# Altium footprint library conn_sw.PCBLIB: 173 footprints (part 6 of 11)
Each footprint in its own frame and in the unit in brackets; x right, y up, seen from the top. Pads: shape width x height; smd on the part's side, far side on the other; paste and mask are expansions set on the pad; w line width, h text height; cw(c..) or ccw(c..) is an arc to the next point about the centre after c.
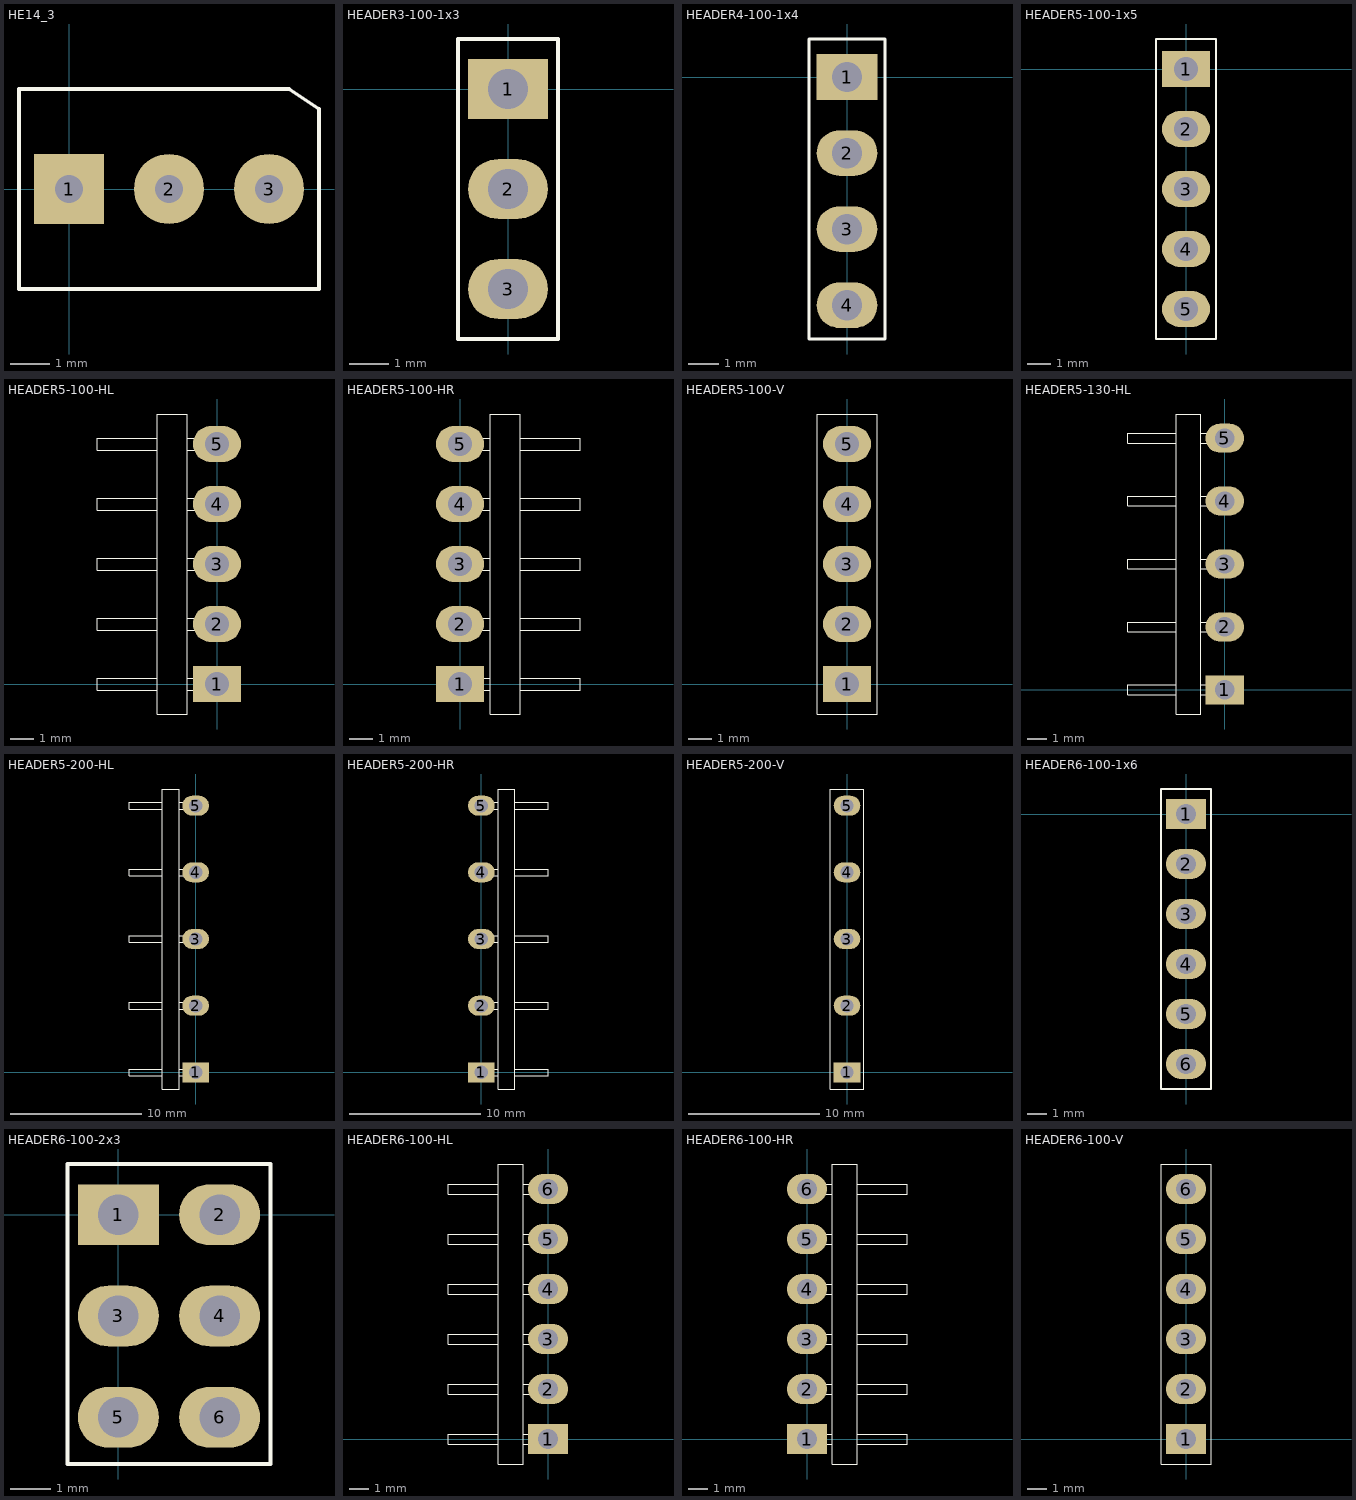
[diagram p5: the footprints below, top view; thin cyan lines are the x and y axes]

## HE14_3 [mil]
pads (3):
  rect 70x70 hole 28: 1(0,0)
  round 70 hole 28: 2(100,0) 3(200,0)
Top Overlay:
  lines w3.94: -50,-100 -50,100 220,100 250,80 250,-100 -50,-100

## HEADER3-100-1x3 [mil]
pads (3):
  rect 80x60 hole 40: 1(0,0)
  oval 80x60 hole 40: 2(0,-100) 3(0,-200)
Top Overlay:
  lines w3.94: -50,-250 -50,50 50,50 50,-250 -50,-250

## HEADER4-100-1x4 [mil]
pads (4):
  rect 80x60 hole 40: 1(0,0)
  oval 80x60 hole 40: 2(0,-100) 3(0,-200) 4(0,-300)
Top Overlay:
  lines w3.94: -50,-344.49 -50,50 50,50 50,-344.49 29.53,-344.49 -20.47,-344.49 -49.21,-344.49

## HEADER5-100-1x5 [mil]
pads (5):
  rect 80x60 hole 40: 1(0,0)
  oval 80x60 hole 40: 2(0,-100) 3(0,-200) 4(0,-300) 5(0,-400)
Top Overlay:
  lines w3.94: -50,-450 50,-450 50,50 -50,50 -50,-450

## HEADER5-100-HL [mil]
pads (5):
  rect 80x60 hole 40: 1(0,0)
  oval 80x60 hole 40: 2(0,100) 3(0,200) 4(0,300) 5(0,400)
Top Overlay:
  lines w1.97: -100,-10 -200,-10 -200,10 -100,10 ; -100,90 -200,90 -200,110 -100,110 ; -100,190 -200,190 -200,210 -100,210 ; -100,290 -200,290 -200,310 -100,310 ; -100,390 -200,390 -200,410 -100,410 ; -50,-10 10,-10 10,10 -50,10 ; -50,90 10,90 10,110 -50,110 ; -50,190 10,190 10,210 -50,210 ; -50,290 10,290 10,310 -50,310 ; -50,390 10,390 10,410 ; -50,410 10,410 ; -30,410 10,410 ; -100,-50 -100,450 -50,450 -50,-50 -100,-50

## HEADER5-100-HR [mil]
pads (5):
  rect 80x60 hole 40: 1(0,0)
  oval 80x60 hole 40: 2(0,100) 3(0,200) 4(0,300) 5(0,400)
Top Overlay:
  lines w1.97: 30,-10 -10,-10 ; 50,-10 -10,-10 ; 50,10 -10,10 -10,-10 ; 50,90 -10,90 -10,110 50,110 ; 50,190 -10,190 -10,210 50,210 ; 50,290 -10,290 -10,310 50,310 ; 50,390 -10,390 -10,410 50,410 ; 100,-10 200,-10 200,10 100,10 ; 100,90 200,90 200,110 100,110 ; 100,190 200,190 200,210 100,210 ; 100,290 200,290 200,310 100,310 ; 100,390 200,390 200,410 100,410 ; 50,-50 100,-50 100,450 50,450 50,-50

## HEADER5-100-V [mil]
pads (5):
  rect 80x60 hole 40: 1(0,0)
  oval 80x60 hole 40: 2(0,100) 3(0,200) 4(0,300) 5(0,400)
Top Overlay:
  lines w1.97: -50,-50 50,-50 50,450 -50,450 -50,-50

## HEADER5-130-HL [mil]
pads (5):
  rect 80x60 hole 40: 1(0,0)
  oval 80x60 hole 40: 2(0,130) 3(0,260) 4(0,390) 5(0,520)
Top Overlay:
  lines w1.97: -100,-10 -200,-10 -200,10 -100,10 ; -100,120 -200,120 -200,140 -100,140 ; -100,250 -200,250 -200,270 -100,270 ; -100,380 -200,380 -200,400 -100,400 ; -100,510 -200,510 -200,530 -100,530 ; -50,-10 10,-10 10,10 -50,10 ; -50,120 10,120 10,140 -50,140 ; -50,250 10,250 10,270 -50,270 ; -50,380 10,380 10,400 ; -50,400 10,400 ; -50,510 10,510 10,530 -50,530 ; -30,400 10,400 ; -100,-50 -50,-50 -50,570 -100,570 -100,-50

## HEADER5-200-HL [mil]
pads (5):
  rect 80x60 hole 40: 1(0,0)
  oval 80x60 hole 40: 2(0,200) 3(0,400) 4(0,600) 5(0,800)
Top Overlay:
  lines w1.97: -100,-10 -200,-10 -200,10 -100,10 ; -100,190 -200,190 -200,210 -100,210 ; -100,390 -200,390 -200,410 -100,410 ; -100,590 -200,590 -200,610 -100,610 ; -100,790 -200,790 -200,810 -100,810 ; -50,-10 10,-10 10,10 -50,10 ; -50,190 10,190 10,210 -50,210 ; -50,390 10,390 10,410 -50,410 ; -50,590 10,590 10,610 -50,610 ; -50,790 10,790 10,810 ; -50,810 10,810 ; -30,810 10,810 ; -100,-50 -100,850 -50,850 -50,-50 -100,-50

## HEADER5-200-HR [mil]
pads (5):
  rect 80x60 hole 40: 1(0,0)
  oval 80x60 hole 40: 2(0,200) 3(0,400) 4(0,600) 5(0,800)
Top Overlay:
  lines w1.97: 30,-10 -10,-10 ; 50,-10 -10,-10 ; 50,10 -10,10 -10,-10 ; 50,190 -10,190 -10,210 50,210 ; 50,390 -10,390 -10,410 50,410 ; 50,590 -10,590 -10,610 50,610 ; 50,790 -10,790 -10,810 50,810 ; 100,-10 200,-10 200,10 100,10 ; 100,190 200,190 200,210 100,210 ; 100,390 200,390 200,410 100,410 ; 100,590 200,590 200,610 100,610 ; 100,790 200,790 200,810 100,810 ; 50,-50 100,-50 100,850 50,850 50,-50

## HEADER5-200-V [mil]
pads (5):
  rect 80x60 hole 40: 1(0,0)
  oval 80x60 hole 40: 2(0,200) 3(0,400) 4(0,600) 5(0,800)
Top Overlay:
  lines w1.97: -50,-50 50,-50 50,850 -50,850 -50,-50

## HEADER6-100-1x6 [mil]
pads (6):
  rect 80x60 hole 40: 1(0,0)
  oval 80x60 hole 40: 2(0,-100) 3(0,-200) 4(0,-300) 5(0,-400) 6(0,-500)
Top Overlay:
  lines w3.94: -50,-550 50,-550 50,50 -50,50 -50,-550

## HEADER6-100-2x3 [mil]
pads (6):
  rect 80x60 hole 40: 1(0,0)
  oval 80x60 hole 40: 2(100,0) 3(0,-100) 4(100,-100) 5(0,-200) 6(100,-200)
Top Overlay:
  lines w3.94: -50,-246.06 150,-246.06 150,50 -50,50 -50,-246.06

## HEADER6-100-HL [mil]
pads (6):
  rect 80x60 hole 40: 1(0,0)
  oval 80x60 hole 40: 2(0,100) 3(0,200) 4(0,300) 5(0,400) 6(0,500)
Top Overlay:
  lines w1.97: -100,-10 -200,-10 -200,10 -100,10 ; -100,90 -200,90 -200,110 -100,110 ; -100,190 -200,190 -200,210 -100,210 ; -100,290 -200,290 -200,310 -100,310 ; -100,390 -200,390 -200,410 -100,410 ; -100,490 -200,490 -200,510 -100,510 ; -50,-10 10,-10 10,10 -50,10 ; -50,90 10,90 10,110 -50,110 ; -50,190 10,190 10,210 -50,210 ; -50,290 10,290 10,310 -50,310 ; -50,390 10,390 10,410 ; -50,410 10,410 ; -50,490 10,490 ; -50,510 10,510 ; -30,410 10,410 ; -100,-50 -100,550 -50,550 -50,-50 -100,-50

## HEADER6-100-HR [mil]
pads (6):
  rect 80x60 hole 40: 1(0,0)
  oval 80x60 hole 40: 2(0,100) 3(0,200) 4(0,300) 5(0,400) 6(0,500)
Top Overlay:
  lines w1.97: 30,-10 -10,-10 ; 50,-10 -10,-10 ; 50,10 -10,10 -10,-10 ; 50,90 -10,90 -10,110 50,110 ; 50,190 -10,190 -10,210 50,210 ; 50,290 -10,290 -10,310 50,310 ; 50,390 -10,390 -10,410 50,410 ; 50,490 -10,490 -10,510 50,510 ; 100,-10 200,-10 200,10 100,10 ; 100,90 200,90 200,110 100,110 ; 100,190 200,190 200,210 100,210 ; 100,290 200,290 200,310 100,310 ; 100,390 200,390 200,410 100,410 ; 100,490 200,490 200,510 100,510 ; 50,-50 50,550 100,550 100,-50 50,-50

## HEADER6-100-V [mil]
pads (6):
  rect 80x60 hole 40: 1(0,0)
  oval 80x60 hole 40: 2(0,100) 3(0,200) 4(0,300) 5(0,400) 6(0,500)
Top Overlay:
  lines w1.97: -50,-50 -50,550 50,550 50,-50 -50,-50